# EAGLE library part ESP32-PICO-D4 (library SparkFun-RF)
Espressif ESP32 Pico D4 WiFi-compatible SoC microcontroller. Bluetooth Low energy support (BLE, BT4.0, Bluetooth Smart) 28 GPIO pins Dual-core Tensilica LX6 microprocessor Integrated 4MB SPI flash memory Hardware accelerated encryption (AES, SHA2, ECC, RSA-4096) 520kB internal SRAM
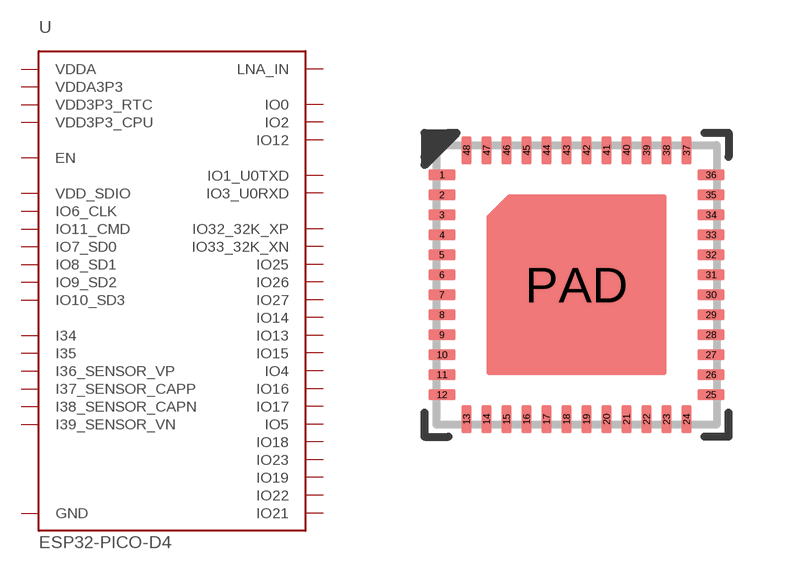
[diagram p36: symbol with the pads of ESP32-PICO-D4; footprint ESP32-PICO-D4]

Designator prefix U

## ESP32-PICO-D4  [ESP32-PICO-D4]
1  VDDA
2  LNA_IN
3  VDDA3P3
4  VDDA3P3
5  I36_SENSOR_VP
6  I37_SENSOR_CAPP
7  I38_SENSOR_CAPN
8  I39_SENSOR_VN
9  EN
10  I34
11  I35
12  IO32_32K_XP
13  IO33_32K_XN
14  IO25
15  IO26
16  IO27
17  IO14
18  IO12
19  VDD3P3_RTC
20  IO13
21  IO15
22  IO2
23  IO0
24  IO4
25  IO16
26  VDD_SDIO
27  IO17
28  IO9_SD2
29  IO10_SD3
30  IO11_CMD
31  IO6_CLK
32  IO7_SD0
33  IO8_SD1
34  IO5
35  IO18
36  IO23
37  VDD3P3_CPU
38  IO19
39  IO22
40  IO3_U0RXD
41  IO1_U0TXD
42  IO21
43  VDDA
46  VDDA
PAD  GND

## Footprint ESP32-PICO-D4 (pad centres in mm)
smd 0.68 x 0.25: 1 -3.365,2.75; 2 -3.365,2.25; 3 -3.365,1.75; 4 -3.365,1.25; 5 -3.365,0.75; 6 -3.365,0.25; 7 -3.365,-0.25; 8 -3.365,-0.75; 9 -3.365,-1.25; 10 -3.365,-1.75; 11 -3.365,-2.25; 12 -3.365,-2.75; 25 3.365,-2.75; 26 3.365,-2.25; 27 3.365,-1.75; 28 3.365,-1.25; 29 3.365,-0.75; 30 3.365,-0.25; 31 3.365,0.25; 32 3.365,0.75; 33 3.365,1.25; 34 3.365,1.75; 35 3.365,2.25; 36 3.365,2.75
smd 0.25 x 0.68: 13 -2.75,-3.365; 14 -2.25,-3.365; 15 -1.75,-3.365; 16 -1.25,-3.365; 17 -0.75,-3.365; 18 -0.25,-3.365; 19 0.25,-3.365; 20 0.75,-3.365; 21 1.25,-3.365; 22 1.75,-3.365; 23 2.25,-3.365; 24 2.75,-3.365; 37 2.75,3.365; 38 2.25,3.365; 39 1.75,3.365; 40 1.25,3.365; 41 0.75,3.365; 42 0.25,3.365; 43 -0.25,3.365; 44 -0.75,3.365; 45 -1.25,3.365; 46 -1.75,3.365; 47 -2.25,3.365; 48 -2.75,3.365
smd 2 x 2: PAD 0,0